# Altium footprint library PcbLib1.PcbLib: 5 footprints
Each footprint in its own frame and in the unit in brackets; x right, y up, seen from the top. Pads: shape width x height; smd on the part's side, far side on the other; paste and mask are expansions set on the pad; w line width, h text height; cw(c..) or ccw(c..) is an arc to the next point about the centre after c.
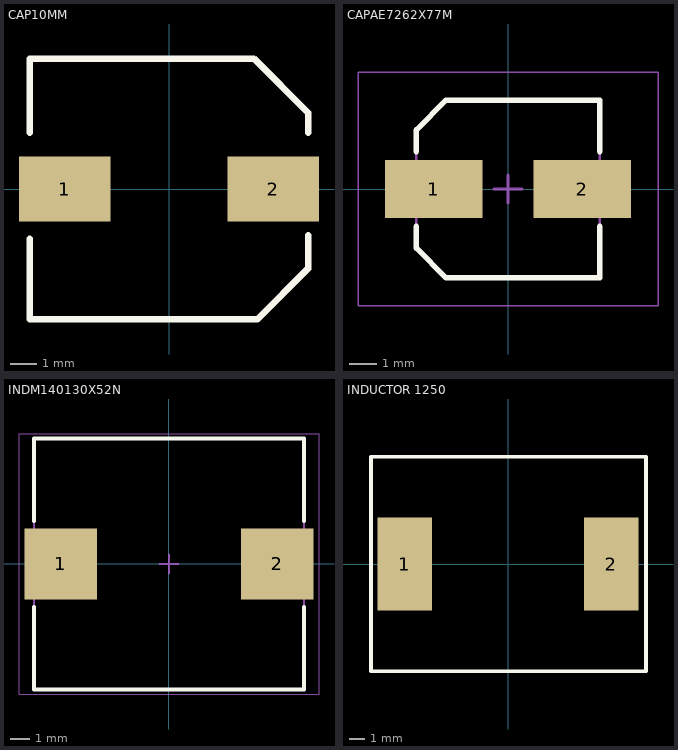
[diagram p0: the footprints below, top view; thin cyan lines are the x and y axes]

## CAP10MM [mm]
pads (2):
  rect 3.5x2.5 smd: 1(-4,0) 2(4,0)
Top Overlay:
  lines w0.254: -5.334,-1.905 -5.334,-5 3.382,-5 5.334,-3.048 5.334,-1.778 ; -5.334,2.159 -5.334,5 3.255,5 5.334,2.921 5.334,2.159
3D body "EEE-FN1A152UL.STEP": height 10.3, standoff 0.1, extent -5.977,-5.277 5.723,5.023

## CAPAE7262X77M [mm] "Aluminum Electrolytic Capacitor, Body 6,60x6,20x7,70mm, IPC Low Density"
height 7.7
pads (2):
  rect 3.5x2.1 smd: 1(-2.675,0) 2(2.675,0)
Top Overlay:
  lines w0.2: -3.3,-1.35 -3.3,-2.125 -2.225,-3.2 3.3,-3.2 3.3,-1.35 ; -3.3,1.35 -3.3,2.125 -2.225,3.2 3.3,3.2 3.3,1.35
Mechanical 13:
  lines w0.1: -3.3,-2.125 -2.225,-3.2 3.3,-3.2 3.3,3.2 -2.225,3.2 -3.3,2.125 -3.3,-2.125
Mechanical 15:
  lines w0.05: -5.4,-4.2 -5.4,4.2 5.4,4.2 5.4,-4.2 -5.4,-4.2
  lines w0.1: -0.5,0 0.5,0 ; 0,-0.5 0,0.5
3D body "CAPAE7262X77M.step": height 7.7, standoff 0, extent -3.6,-3.2 3.6,3.2

## IND1250 [mm]

## INDM140130X52N [mm] "Molded Inductor, 2-Leads, Body 13,95x12,95mm, IPC Medium Density"
height 5.2
pads (2):
  rect 3.8x3.7 smd: 1(-5.65,0) 2(5.65,0)
Top Overlay:
  lines w0.2: -7.05,-2.25 -7.05,-6.55 7.05,-6.55 7.05,-2.25 ; -7.05,2.25 -7.05,6.55 7.05,6.55 7.05,2.25
Mechanical 13:
  lines w0.1: -7.05,-6.55 -7.05,6.55 7.05,6.55 7.05,-6.55 -7.05,-6.55
Mechanical 15:
  lines w0.05: -7.825,-6.8 -7.825,6.8 7.825,6.8 7.825,-6.8 -7.825,-6.8
  lines w0.1: -0.5,0 0.5,0 ; 0,-0.5 0,0.5
3D body "INDM140130X52N.step": height 5.2, standoff 0, extent -7.27,-6.55 7.27,6.55

## INDUCTOR 1250 [mm]
pads (2):
  rect 3.5x6 smd: 1(-6.65,0) 2(6.65,0)
Top Overlay:
  lines w0.254: -8.804,-6.9 8.89,-6.9 8.89,6.9 -8.804,6.9 -8.804,0 -8.804,-6.9
3D body: height 5.2, standoff 0, extent -6.604,-6.985 6.858,6.985